# Altium schematic symbol library E-Madules.SchLib: 2 symbols
Pins are listed as number, name and electrical type; pins without a type are passive.

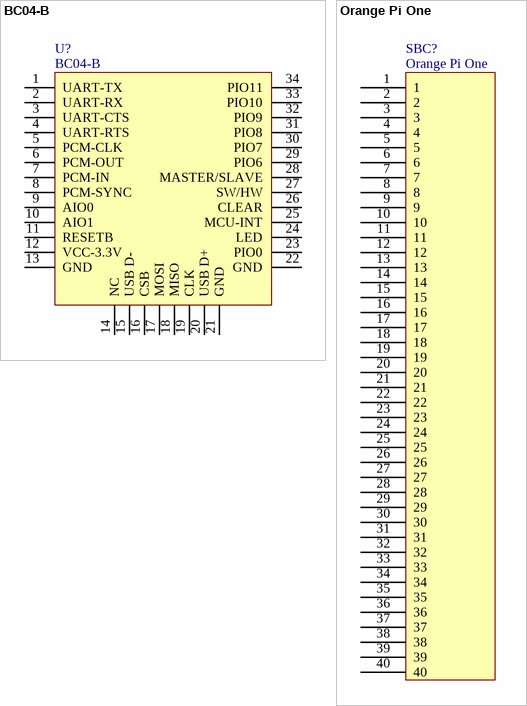
[diagram p0: symbols BC04-B to Orange Pi One]

## BC04-B
designator U?
footprint BC04-B
pins: 1 UART-TX, 2 UART-RX, 3 UART-CTS, 4 UART-RTS, 5 PCM-CLK, 6 PCM-OUT, 7 PCM-IN, 8 PCM-SYNC, 9 AIO0, 10 AIO1, 11 RESETB, 12 VCC-3.3V, 13 GND, 14 NC, 15 USB D-, 16 CSB, 17 MOSI, 18 MISO, 19 CLK, 20 USB D+, 21 GND, 22 GND, 23 PIO0, 24 LED, 25 MCU-INT, 26 CLEAR, 27 SW/HW, 28 MASTER/SLAVE, 29 PIO6, 30 PIO7, 31 PIO8, 32 PIO9, 33 PIO10, 34 PIO11

## Orange Pi One
designator SBC?
footprint Orange Pi One
pins: 1, 2, 3, 4, 5, 6, 7, 8, 9, 10, 11, 12, 13, 14, 15, 16, 17, 18, 19, 20, 21, 22, 23, 24, 25, 26, 27, 28, 29, 30, 31, 32, 33, 34, 35, 36, 37, 38, 39, 40